# Altium integrated library Big_Library_Modular_Jack.IntLib: 1 symbol
Pins are listed as number, name and electrical type; pins without a type are passive.

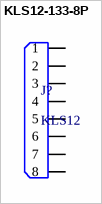
[diagram p0: symbol KLS12-133-8P]

## KLS12-133-8P
designator J?, comment KLS12
MODULAR JACK THT R/A 8P8C (RJ45,Ethernet) GRAY; ComponentLink1Description: Link 1; ComponentLink1URL: *https://ozdisan.com/connectors-and-interconnects/modular-connectors/modular-jacks/L-KLS12-133-8P8C-WO-201/457480
footprint KLS12-133-8P
pins: 1, 2, 3, 4, 5, 6, 7, 8